# EAGLE library part DD50P564TXLF (library DD50P564TXLF)
Amphenol FCI 50 Way Right Angle Through Hole mount PCB D-sub Connector Plug, 2.76mm Pitch Source: Datasheet <http://docs-emea.rs-online.com/webdocs/1104/0900766b81104a30.pdf>
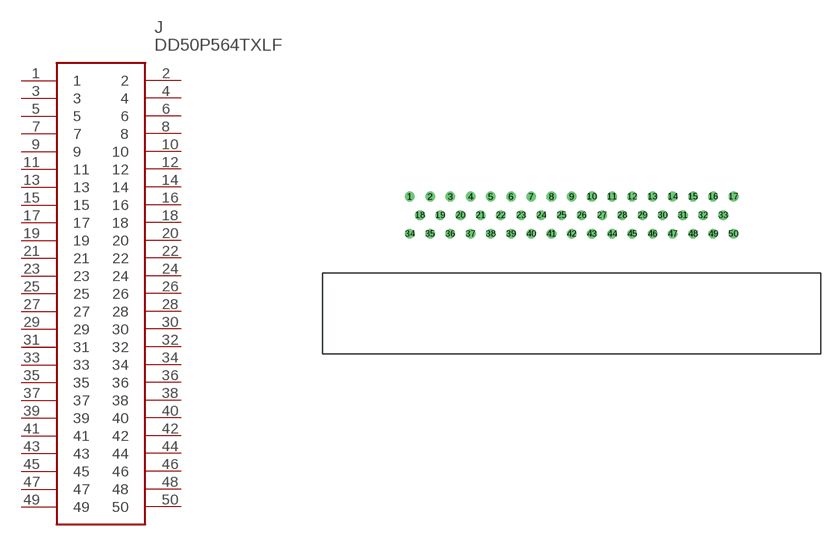
[diagram p0: symbol with the pads of DD50P564TXLF_1; footprint DD50P564TXLF_1]

Designator prefix J

## DD50P564TXLF (Description: Amphenol FCI 50 Way Right Angle Through Hole mount PCB D-sub Connector Plug, 2.76mm Pitch; Height: mm; Manufacturer_Name: FCI; Manufacturer_Part_Number: DD50P564TXLF; Mouser_Part_Number: 649-DD50P564TXLF; Mouser_Price-Stock: https://www.mouser.com/Search/Refine.aspx?Keyword=649-DD50P564TXLF; RS_Part_Number: 1621962; RS_Price-Stock: https://uk.rs-online.com/web/p/products/1621962)  [DD50P564TXLF_1]
1  1
2  2
3  3
4  4
5  5
6  6
7  7
8  8
9  9
10  10
11  11
12  12
13  13
14  14
15  15
16  16
17  17
18  18
19  19
20  20
21  21
22  22
23  23
24  24
25  25
26  26
27  27
28  28
29  29
30  30
31  31
32  32
33  33
34  34
35  35
36  36
37  37
38  38
39  39
40  40
41  41
42  42
43  43
44  44
45  45
46  46
47  47
48  48
49  49
50  50

## Footprint DD50P564TXLF_1 (pad centres in mm)
DD50P564TXLF_1
drill 0.8 pad 1.3: 1 11.885,10.42; 2 14.645,10.42; 3 17.405,10.42; 4 20.165,10.42; 5 22.925,10.42; 6 25.685,10.42; 7 28.445,10.42; 8 31.205,10.42; 9 33.965,10.42; 10 36.725,10.42; 11 39.485,10.42; 12 42.245,10.42; 13 45.005,10.42; 14 47.765,10.42; 15 50.525,10.42; 16 53.285,10.42; 17 56.045,10.42; 18 13.265,7.88; 19 16.025,7.88; 20 18.785,7.88; 21 21.545,7.88; 22 24.305,7.88; 23 27.065,7.88; 24 29.825,7.88; 25 32.585,7.88; 26 35.345,7.88; 27 38.105,7.88; 28 40.865,7.88; 29 43.625,7.88; 30 46.385,7.88; 31 49.145,7.88; 32 51.905,7.88; 33 54.665,7.88; 34 11.885,5.34; 35 14.645,5.34; 36 17.405,5.34; 37 20.165,5.34; 38 22.925,5.34; 39 25.685,5.34; 40 28.445,5.34; 41 31.205,5.34; 42 33.965,5.34; 43 36.725,5.34; 44 39.485,5.34; 45 42.245,5.34; 46 45.005,5.34; 47 47.765,5.34; 48 50.525,5.34; 49 53.285,5.34; 50 56.045,5.34